# EAGLE library part STM3240G-DISP (library stm-boards)
Display daughterboard STM3240G-EVAL evaluation board 3.2" 240x320 TFT color LCD with touchscreen
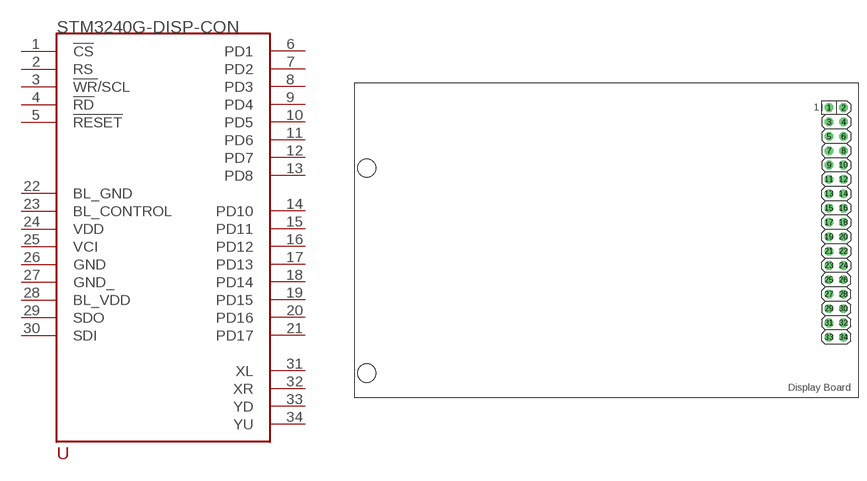
[diagram p0: symbol with the pads of STM3240G-DISP; footprint STM3240G-DISP]

Designator prefix -

## STM3240G-DISP  [STM3240G-DISP]
1  !CS
2  RS
3  !WR!/SCL
4  !RD
5  !RESET
6  PD1
7  PD2
8  PD3
9  PD4
10  PD5
11  PD6
12  PD7
13  PD8
14  PD10
15  PD11
16  PD12
17  PD13
18  PD14
19  PD15
20  PD16
21  PD17
22  BL_GND
23  BL_CONTROL
24  VDD  pwr
25  VCI
26  GND  pwr
27  GND_  pwr
28  BL_VDD
29  SDO
30  SDI
31  XL
32  XR
33  YD
34  YU

## Footprint STM3240G-DISP (pad centres in mm)
Display daughterboard STM3240G-EVAL evaluation board 3.2" 240x320 TFT color LCD with touchscreen 3500 x 2192 mil 88,9 x 55,7 mm
drill 1.016 octagon: 1 39.319,23.47; 2 41.859,23.47; 3 39.319,20.93; 4 41.859,20.93; 5 39.319,18.39; 6 41.859,18.39; 7 39.319,15.85; 8 41.859,15.85; 9 39.319,13.31; 10 41.859,13.31; 11 39.319,10.77; 12 41.859,10.77; 13 39.319,8.23; 14 41.859,8.23; 15 39.319,5.69; 16 41.859,5.69; 17 39.319,3.15; 18 41.859,3.15; 19 39.319,0.61; 20 41.859,0.61; 21 39.319,-1.93; 22 41.859,-1.93; 23 39.319,-4.47; 24 41.859,-4.47; 25 39.319,-7.01; 26 41.859,-7.01; 27 39.319,-9.55; 28 41.859,-9.55; 29 39.319,-12.09; 30 41.859,-12.09; 31 39.319,-14.63; 32 41.859,-14.63; 33 39.319,-17.17; 34 41.859,-17.17
hole 3.2 at -42.393,-23.495
hole 3.2 at -42.393,12.802